# Altium footprint library ACTION_分立元件.PcbLib: 65 footprints (part 3 of 5)
Each footprint in its own frame and in the unit in brackets; x right, y up, seen from the top. Pads: shape width x height; smd on the part's side, far side on the other; paste and mask are expansions set on the pad; w line width, h text height; cw(c..) or ccw(c..) is an arc to the next point about the centre after c.
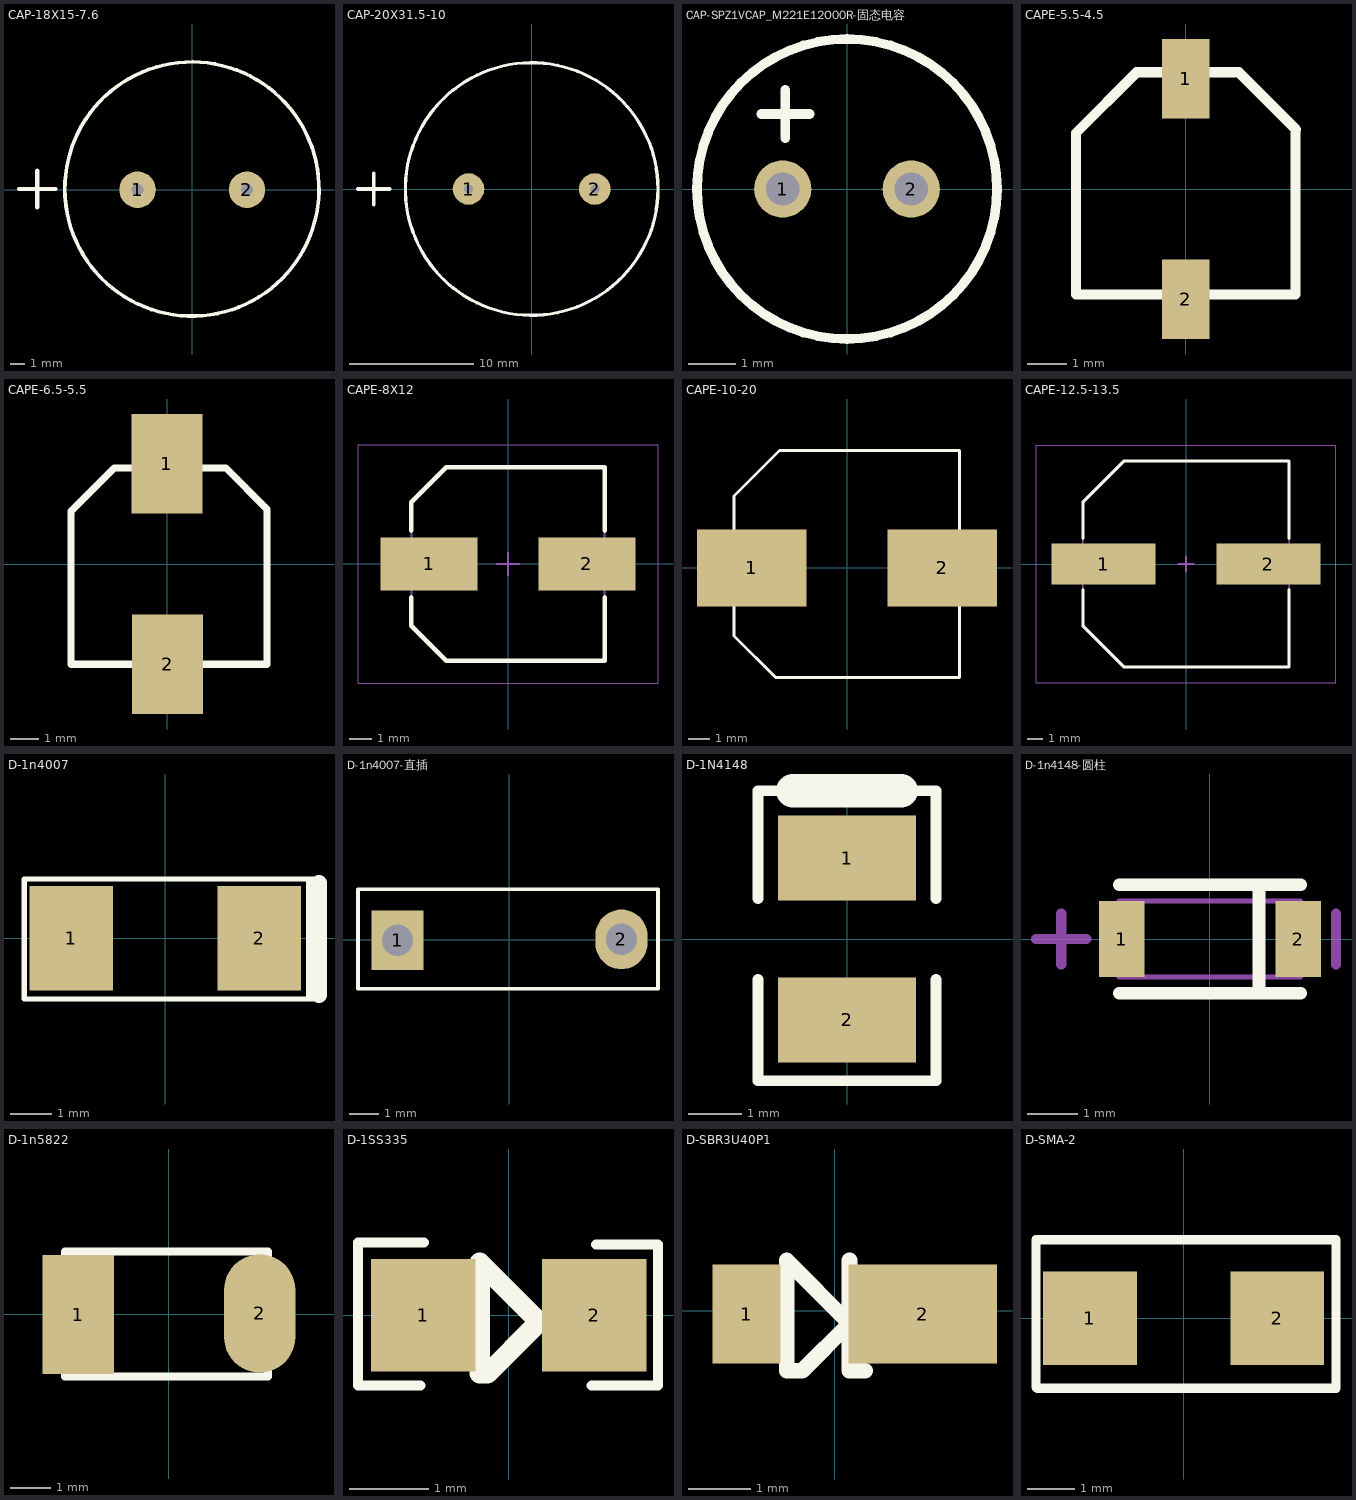
[diagram p2: the footprints below, top view; thin cyan lines are the x and y axes]

## CAP-18X15-7.6 [mil]
pads (2):
  round 100 hole 32: 1(-150,0) 2(150,0)
Top Overlay:
  lines w10: -348.71,-19.79 cw(c-1,2) -348.42,-24.03
  lines w12: -475,2 -375,2 ; -425,-48 -425,52
3D body "User Library-HE Series 18X15.STEP": height 600.55, standoff -88.43, extent -353.33,-352.33 355.33,356.32

## CAP-20X31.5-10 [mil]
pads (2):
  round 100 hole 28: 1(-200,0) 2(200,0)
Top Overlay:
  circle w10: c0,0 r400
  lines w12: -550,0 -450,0 ; -500,-50 -500,50

## CAP-SPZ1VCAP_M221E12O00R-固态电容 [mm]
pads (2):
  round 1.2 hole 0.7: 1(-1.35,0) 2(1.35,0)
Top Overlay:
  circle w0.2: c0,0 r3.15
  lines w0.2: -1.803,1.575 -0.787,1.575 ; -1.295,1.067 -1.295,2.083

## CAPE-5.5-4.5 [mm]
pads (2):
  rect 1.2x2 smd: 1(0,2.781) 2(0,-2.781)
Top Overlay:
  lines w0.254: 1.336,2.944 2.779,1.501 ; -2.769,-2.654 2.769,-2.654 2.769,1.504 1.328,2.944 -1.236,2.944 -2.769,1.409 -2.769,-2.654
3D body "CAPE-C.STEP": height 5.41, standoff 0, extent -2.652,-2.785 2.648,3.115

## CAPE-6.5-5.5 [mm]
pads (2):
  rect 2.5x3.5 smd: 1(-0.013,3.531) 2(0.013,-3.531)
Top Overlay:
  lines w0.254: -3.391,-3.531 -3.391,1.854 -1.867,3.378 2.07,3.378 3.518,1.93 3.518,-3.531 -3.391,-3.531
3D body "CAPE-D.STEP": height 5.41, standoff -0.01, extent -3.237,-3.551 3.363,3.449

## CAPE-8X12 [mm]
height 11.9
pads (2):
  rect 4.25x2.35 smd: 1(-3.475,0) 2(3.475,0)
Top Overlay:
  lines w0.2: -4.25,-1.475 -4.25,-2.713 -2.712,-4.25 4.25,-4.25 4.25,-1.475 ; -4.25,1.475 -4.25,2.712 -2.712,4.25 4.25,4.25 4.25,1.475
Mechanical 13:
  lines w0.1: -4.25,-2.713 -4.25,2.712 -2.712,4.25 4.25,4.25 4.25,-4.25 -2.712,-4.25 -4.25,-2.713
Mechanical 15:
  lines w0.05: -6.6,-5.25 6.6,-5.25 6.6,5.25 -6.6,5.25 -6.6,-5.25
  lines w0.1: -0.5,0 0.5,0 ; 0,-0.5 0,0.5
3D body: height 11.9, standoff 0, extent -4,-4 4,3.994
3D body: height 3.97, standoff 0, extent -4.25,-4.25 4.25,4.25

## CAPE-10-20 [mm]
height 0.6
pads (2):
  rect 5x3.5 smd: 1(-4.343,0) 2(4.343,0)
Top Overlay:
  lines w0.127: -5.156,-3.099 -5.156,3.277 -3.073,5.359 5.131,5.359 5.131,-5.004 -3.251,-5.004 -5.156,-3.099
3D body "CAPE-G17.STEP": height 17, standoff 0, extent -6.15,-5.047 6.15,5.453

## CAPE-12.5-13.5 [mm] "Aluminum Electrolytic Capacitor, Body 13.00x13.00x14.00mm, IPC Low Density"
height 14
pads (2):
  rect 6.65x2.65 smd: 1(-5.275,0) 2(5.275,0)
Top Overlay:
  lines w0.2: -6.6,-1.625 -6.6,-3.962 -3.963,-6.6 6.6,-6.6 6.6,-1.625 ; -6.6,1.625 -6.6,3.963 -3.963,6.6 6.6,6.6 6.6,1.625
Mechanical 13:
  lines w0.1: -6.6,-3.962 -6.6,3.963 -3.963,6.6 6.6,6.6 6.6,-6.6 -3.963,-6.6 -6.6,-3.962
Mechanical 15:
  lines w0.05: -9.6,-7.6 9.6,-7.6 9.6,7.6 -9.6,7.6 -9.6,-7.6
  lines w0.1: -0.5,0 0.5,0 ; 0,-0.5 0,0.5
3D body: height 4.67, standoff 0, extent -6.6,-6.6 6.6,6.6
3D body "User Library-ALU-H16.step": height 17, standoff 0, extent -7.75,-6.85 7.75,6.85

## D-1n4007 [mil]
pads (2):
  rect 80x100 smd: 1(-90,0) 2(90,0)
Top Overlay:
  lines w5: 129,-58 145,-58 ; 146,57 137,57 ; 137,57 -135,57 -135,-10 -135,-58 137,-58 137,57
  lines w15: 147,-54 147,53
3D body "User Library-Diode SMD 1N4007-1.STEP": height 95.24, standoff -0.43, extent -113.32,-61.21 95.34,61.23

## D-1n4007-直插 [mil]
pads (2):
  rect 70x80 hole 42: 1(-150,-0.5)
  oval 70x80 hole 42: 2(150,0.5)
Top Overlay:
  lines w5: -203,-65.5 199,-65.5 199,67.5 -203,67.5 -203,-65.5
3D body "SW3dPS-1N4007.STEP": height 120.61, standoff -50, extent -169.49,-54.99 161.51,50.01

## D-1N4148 [mm]
height 5.08
pads (2):
  rect 2.6x1.6 smd: 1(0,1.524) 2(0,-1.524)
Top Overlay:
  lines w0.2: -1.676,-0.762 -1.676,-2.667 1.676,-2.667 1.676,-0.762 ; -1.676,0.762 -1.676,2.794 1.676,2.794 1.676,0.762
  lines w0.635: -1.016,2.794 1.016,2.794
3D body "1N4148 SMD.STEP": height 1.25, standoff 0, extent -0.94,-1.925 0.66,1.773

## D-1n4148-圆柱 [mm]
pads (2):
  rect 0.9x1.5 smd: 1(-1.75,0) 2(1.75,0)
Top Overlay:
  lines w0.254: -1.8,-1.075 1.8,-1.075 ; -1.8,1.075 1.8,1.075 ; 0.975,-1.075 0.975,1.075
Mechanical 13:
  lines w0.1: -1.8,-0.75 -1.8,0.75 1.8,0.75 1.8,-0.75 -1.8,-0.75
Mechanical 15:
  lines w0.203: -3.45,0 -2.45,0 ; -2.95,-0.5 -2.95,0.5 ; 2.5,-0.5 2.5,0.5
3D body "DIOMELF3414N.STEP": height 1.46, standoff 0.06, extent -1.675,-0.7 1.725,0.7

## D-1n5822 [mil]
pads (2):
  rect 70x116.3 smd: 1(-89,-0.5)
  oval 70x116.3 smd: 2(89,0.5)
Top Overlay:
  lines w7.87: -102,-61.5 97,-61.5 97,61.5 -102,61.5 -102,-61.5
3D body: height 51.18, standoff 0, extent -103,-60.5 97,59.5

## D-1SS335 [mil]
pads (2):
  rect 52x56 smd: 1(-42.5,0) 2(42.5,0)
Top Overlay:
  lines w5: -43.9,-34.84 -74.9,-34.84 -74.9,36 -42.06,36 ; 41.1,-34.84 74.1,-34.84 74.1,35 43.27,35
  lines w10: 13.11,-5.34 -10.51,-28.96 -14.45,-28.96 -14.45,26.16 13.11,-1.4 ; 13.11,-1.4 13.11,-1.4
3D body: height 70, standoff 0, extent -68.64,-28.4 68.36,27.6

## D-SBR3U40P1 [mm]
height 0.5
pads (2):
  rect 1.1x1.6 smd: 1(-1.422,-0.051)
  rect 2.4x1.6 smd: 2(1.422,-0.051)
Top Overlay:
  lines w0.254: 0.241,0.813 0.241,-0.965 0.495,-0.965 ; -0.775,-0.965 -0.775,0.813 0.241,-0.203 -0.521,-0.965 -0.775,-0.965
3D body "User Library-POWERDI-123.STEP": height 1.1, standoff 0.1, extent -1.62,-1.016 2.28,0.914

## D-SMA-2 [mm]
pads (2):
  rect 2x2 smd: 1(-2,0) 2(2,0)
Top Overlay:
  lines w0.2: -3.15,-1.473 -3.124,-1.499 3.251,-1.499 3.251,1.676 -3.15,1.676 -3.15,-1.473
3D body "DO214 SMA.STEP": height 2.41, standoff 0.13, extent -2.692,-1.295 2.794,1.499